# Altium integrated library Capacitor - Aluminium TH.IntLib: 4591 symbols (part 13 of 68)
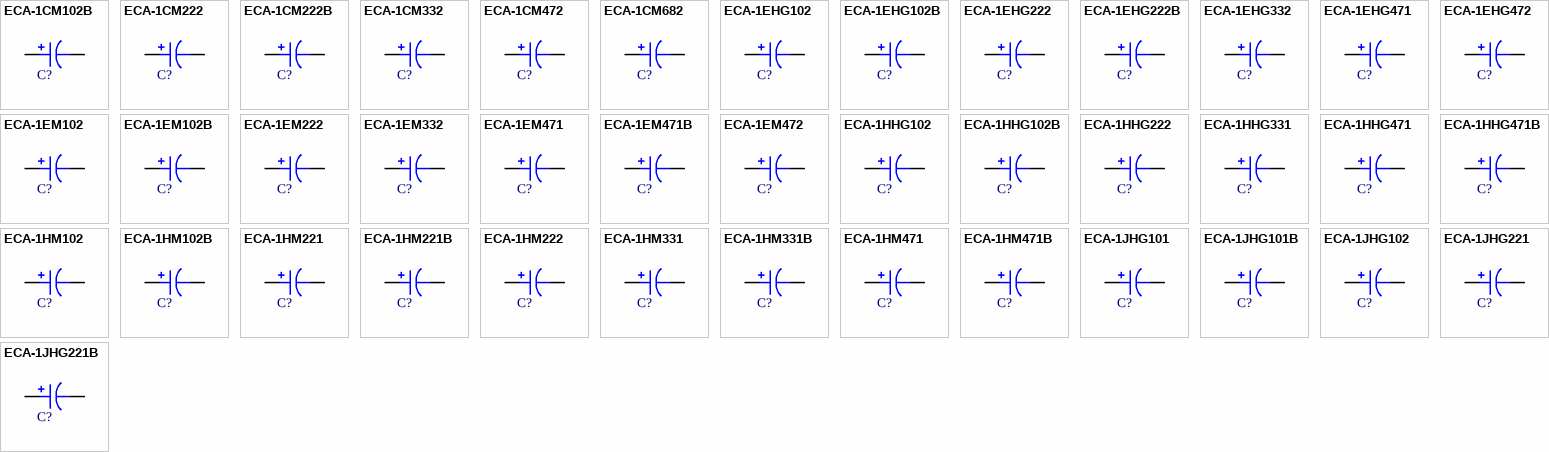
[diagram p126: symbols ECA-1CM102B to ECA-1JHG221B]

## ECA-1HHG102
designator C?, comment 1000uF  (value not drawn)
CAP ALUM 1000UF 20% 50V RADIAL; Part Number: ECA-1HHG102; Manufacturer: Panasonic Electronic Components; TemperatureRange: -55C ~ 105C; Type: Polar; Ripple Current: 950mA @ 120Hz; Value: 1000uF; PartId: 23951; Supplier 1: Digi-Key; Supplier Part Number 1: P5575-ND; ComponentLink1Description: Datasheet; ComponentLink1URL: https://industrial.panasonic.com/cdbs/www-data/pdf/RDF0000/ABA0000C1038.pdf; ComponentLink2Description: Digi-Key Listing; ComponentLink2URL: https://www.digikey.com/product-detail/en/panasonic-electronic-components/ECA-1HHG102/P5575-ND/245174; Tolerance: 20%; Voltage: 50V; Price: 0.98; Device Package: Radial, Can, 12.5mm
footprint CAP AL TH D12.5 L5 H27
pins: 1, 2

## ECA-1HHG102B
designator C?, comment 1000uF  (value not drawn)
CAP ALUM 1000UF 20% 50V RADIAL; Part Number: ECA-1HHG102B; Manufacturer: Panasonic Electronic Components; TemperatureRange: -55C ~ 105C; Type: Polar; Ripple Current: 950mA @ 120Hz; Value: 1000uF; PartId: 24018; Supplier 1: Digi-Key; Supplier Part Number 1: P19524CT-ND; ComponentLink1Description: Datasheet; ComponentLink1URL: https://industrial.panasonic.com/cdbs/www-data/pdf/RDF0000/ABA0000C1038.pdf; ComponentLink2Description: Digi-Key Listing; ComponentLink2URL: https://www.digikey.com/product-detail/en/panasonic-electronic-components/ECA-1HHG102B/P19524CT-ND/6109422; Tolerance: 20%; Voltage: 50V; Price: 1.07; Device Package: Radial, Can, 12.5mm
footprint CAP AL TH D12.5 L5 H27
pins: 1, 2

## ECA-1HHG222
designator C?, comment 2200uF  (value not drawn)
CAP ALUM 2200UF 20% 50V RADIAL; Part Number: ECA-1HHG222; Manufacturer: Panasonic Electronic Components; TemperatureRange: -55C ~ 105C; Type: Polar; Ripple Current: 1.47A @ 120Hz; Value: 2200uF; PartId: 27067; Supplier 1: Digi-Key; Supplier Part Number 1: P5576-ND; ComponentLink1Description: Datasheet; ComponentLink1URL: https://industrial.panasonic.com/cdbs/www-data/pdf/RDF0000/ABA0000C1038.pdf; ComponentLink2Description: Digi-Key Listing; ComponentLink2URL: https://www.digikey.com/product-detail/en/panasonic-electronic-components/ECA-1HHG222/P5576-ND/245175; Tolerance: 20%; Voltage: 50V; Price: 1.64; Device Package: Radial, Can, 16mm
footprint CAP AL TH D16 L7.5 H33.5
pins: 1, 2

## ECA-1HHG331
designator C?, comment 330uF  (value not drawn)
CAP ALUM 330UF 20% 50V RADIAL; Part Number: ECA-1HHG331; Manufacturer: Panasonic Electronic Components; TemperatureRange: -55C ~ 105C; Type: Polar; Ripple Current: 410mA @ 120Hz; Value: 330uF; PartId: 25258; Supplier 1: Digi-Key; Supplier Part Number 1: P5573-ND; ComponentLink1Description: Datasheet; ComponentLink1URL: https://industrial.panasonic.com/cdbs/www-data/pdf/RDF0000/ABA0000C1038.pdf; ComponentLink2Description: Digi-Key Listing; ComponentLink2URL: https://www.digikey.com/product-detail/en/panasonic-electronic-components/ECA-1HHG331/P5573-ND/245172; Tolerance: 20%; Voltage: 50V; Price: 0.59; Device Package: Radial, Can, 10mm
footprint CAP AL TH D10 L5 H17.5
pins: 1, 2

## ECA-1HHG471
designator C?, comment 470uF  (value not drawn)
CAP ALUM 470UF 20% 50V RADIAL; Part Number: ECA-1HHG471; Manufacturer: Panasonic Electronic Components; TemperatureRange: -55C ~ 105C; Type: Polar; Ripple Current: 530mA @ 120Hz; Value: 470uF; PartId: 25873; Supplier 1: Digi-Key; Supplier Part Number 1: P5574-ND; ComponentLink1Description: Datasheet; ComponentLink1URL: https://industrial.panasonic.com/cdbs/www-data/pdf/RDF0000/ABA0000C1038.pdf; ComponentLink2Description: Digi-Key Listing; ComponentLink2URL: https://www.digikey.com/product-detail/en/panasonic-electronic-components/ECA-1HHG471/P5574-ND/245173; Tolerance: 20%; Voltage: 50V; Price: 0.64; Device Package: Radial, Can, 10mm
footprint CAP AL TH D10 L5 H22
pins: 1, 2

## ECA-1HHG471B
designator C?, comment 470uF  (value not drawn)
CAP ALUM 470UF 20% 50V RADIAL; Part Number: ECA-1HHG471B; Manufacturer: Panasonic Electronic Components; TemperatureRange: -55C ~ 105C; Type: Polar; Ripple Current: 530mA @ 120Hz; Value: 470uF; PartId: 25796; Supplier 1: Digi-Key; Supplier Part Number 1: P19527TB-ND; ComponentLink1Description: Datasheet; ComponentLink1URL: https://industrial.panasonic.com/cdbs/www-data/pdf/RDF0000/ABA0000C1038.pdf; ComponentLink2Description: Digi-Key Listing; ComponentLink2URL: https://www.digikey.com/product-detail/en/panasonic-electronic-components/ECA-1HHG471B/P19527TB-ND/2688700; Tolerance: 20%; Voltage: 50V; Price: 0.2734; Device Package: Radial, Can, 10mm
footprint CAP AL TH D10 L5 H22
pins: 1, 2

## ECA-1HM102
designator C?, comment 1000uF  (value not drawn)
CAP ALUM 1000UF 20% 50V RADIAL; Part Number: ECA-1HM102; Manufacturer: Panasonic Electronic Components; TemperatureRange: -40C ~ 85C; Type: Polar; Ripple Current: 1.05A @ 120Hz; Value: 1000uF; PartId: 23870; Supplier 1: Digi-Key; Supplier Part Number 1: P5186-ND; ComponentLink1Description: Datasheet; ComponentLink1URL: http://industrial.panasonic.com/www-cgi/jvcr13pz.cgi?E+PZ+3+ABA0012+ECA1HM102+7+WW; ComponentLink2Description: Digi-Key Listing; ComponentLink2URL: https://www.digikey.com/product-detail/en/panasonic-electronic-components/ECA-1HM102/P5186-ND/245045; Tolerance: 20%; Voltage: 50V; Price: 0.81; Device Package: Radial, Can, 12.5mm
footprint CAP AL TH D12.5 L5 H27
pins: 1, 2

## ECA-1HM102B
designator C?, comment 1000uF  (value not drawn)
CAP ALUM 1000UF 20% 50V RADIAL; Part Number: ECA-1HM102B; Manufacturer: Panasonic Electronic Components; TemperatureRange: -40C ~ 85C; Type: Polar; Ripple Current: 1.05A @ 120Hz; Value: 1000uF; PartId: 23804; Supplier 1: Digi-Key; Supplier Part Number 1: P19529TB-ND; ComponentLink1Description: Datasheet; ComponentLink1URL: http://industrial.panasonic.com/www-cgi/jvcr13pz.cgi?E+PZ+3+ABA0012+ECA1HM102B+7+WW; ComponentLink2Description: Digi-Key Listing; ComponentLink2URL: https://www.digikey.com/product-detail/en/panasonic-electronic-components/ECA-1HM102B/P19529TB-ND/2688712; Tolerance: 20%; Voltage: 50V; Price: 0.3625; Device Package: Radial, Can, 12.5mm
footprint CAP AL TH D12.5 L5 H27
pins: 1, 2

## ECA-1HM221
designator C?, comment 220uF  (value not drawn)
CAP ALUM 220UF 20% 50V RADIAL; Part Number: ECA-1HM221; Manufacturer: Panasonic Electronic Components; TemperatureRange: -40C ~ 85C; Type: Polar; Ripple Current: 400mA @ 120Hz; Value: 220uF; PartId: 24845; Supplier 1: Digi-Key; Supplier Part Number 1: P5183-ND; ComponentLink1Description: Datasheet; ComponentLink1URL: http://industrial.panasonic.com/www-cgi/jvcr13pz.cgi?E+PZ+3+ABA0012+ECA1HM221+7+WW; ComponentLink2Description: Digi-Key Listing; ComponentLink2URL: https://www.digikey.com/product-detail/en/panasonic-electronic-components/ECA-1HM221/P5183-ND/245042; Tolerance: 20%; Voltage: 50V; Price: 0.47; Device Package: Radial, Can, 10mm
footprint CAP AL TH D10 L5 H14.5
pins: 1, 2

## ECA-1HM221B
designator C?, comment 220uF  (value not drawn)
CAP ALUM 220UF 20% 50V RADIAL; Part Number: ECA-1HM221B; Manufacturer: Panasonic Electronic Components; TemperatureRange: -40C ~ 85C; Type: Polar; Ripple Current: 400mA @ 120Hz; Value: 220uF; PartId: 24570; Supplier 1: Digi-Key; Supplier Part Number 1: P10398TB-ND; ComponentLink1Description: Datasheet; ComponentLink1URL: http://industrial.panasonic.com/www-cgi/jvcr13pz.cgi?E+PZ+3+ABA0012+ECA1HM221B+7+WW; ComponentLink2Description: Digi-Key Listing; ComponentLink2URL: https://www.digikey.com/product-detail/en/panasonic-electronic-components/ECA-1HM221B/P10398TB-ND/268483; Tolerance: 20%; Voltage: 50V; Price: 0.1554; Device Package: Radial, Can, 10mm
footprint CAP AL TH D10 L5 H14.5
pins: 1, 2

## ECA-1HM222
designator C?, comment 2200uF  (value not drawn)
CAP ALUM 2200UF 20% 50V RADIAL; Part Number: ECA-1HM222; Manufacturer: Panasonic Electronic Components; TemperatureRange: -40C ~ 85C; Type: Polar; Ripple Current: 1.3A @ 120Hz; Value: 2200uF; PartId: 27012; Supplier 1: Digi-Key; Supplier Part Number 1: P5187-ND; ComponentLink1Description: Datasheet; ComponentLink1URL: http://industrial.panasonic.com/www-cgi/jvcr13pz.cgi?E+PZ+3+ABA0012+ECA1HM222+7+WW; ComponentLink2Description: Digi-Key Listing; ComponentLink2URL: https://www.digikey.com/product-detail/en/panasonic-electronic-components/ECA-1HM222/P5187-ND/245046; Tolerance: 20%; Voltage: 50V; Price: 1.42; Device Package: Radial, Can, 16mm
footprint CAP AL TH D16 L7.5 H33.5
pins: 1, 2

## ECA-1HM331
designator C?, comment 330uF  (value not drawn)
CAP ALUM 330UF 20% 50V RADIAL; Part Number: ECA-1HM331; Manufacturer: Panasonic Electronic Components; TemperatureRange: -40C ~ 85C; Type: Polar; Ripple Current: 500mA @ 120Hz; Value: 330uF; PartId: 25153; Supplier 1: Digi-Key; Supplier Part Number 1: P5184-ND; ComponentLink1Description: Datasheet; ComponentLink1URL: http://industrial.panasonic.com/www-cgi/jvcr13pz.cgi?E+PZ+3+ABA0012+ECA1HM331+7+WW; ComponentLink2Description: Digi-Key Listing; ComponentLink2URL: https://www.digikey.com/product-detail/en/panasonic-electronic-components/ECA-1HM331/P5184-ND/245043; Tolerance: 20%; Voltage: 50V; Price: 0.43; Device Package: Radial, Can, 10mm
footprint CAP AL TH D10 L5 H17.5
pins: 1, 2

## ECA-1HM331B
designator C?, comment 330uF  (value not drawn)
CAP ALUM 330UF 20% 50V RADIAL; Part Number: ECA-1HM331B; Manufacturer: Panasonic Electronic Components; TemperatureRange: -40C ~ 85C; Type: Polar; Ripple Current: 500mA @ 120Hz; Value: 330uF; PartId: 25014; Supplier 1: Digi-Key; Supplier Part Number 1: P10399TB-ND; ComponentLink1Description: Datasheet; ComponentLink1URL: http://industrial.panasonic.com/www-cgi/jvcr13pz.cgi?E+PZ+3+ABA0012+ECA1HM331B+7+WW; ComponentLink2Description: Digi-Key Listing; ComponentLink2URL: https://www.digikey.com/product-detail/en/panasonic-electronic-components/ECA-1HM331B/P10399TB-ND/268484; Tolerance: 20%; Voltage: 50V; Price: 0.1582; Device Package: Radial, Can, 10mm
footprint CAP AL TH D10 L5 H17.5
pins: 1, 2

## ECA-1HM471
designator C?, comment 470uF  (value not drawn)
CAP ALUM 470UF 20% 50V RADIAL; Part Number: ECA-1HM471; Manufacturer: Panasonic Electronic Components; TemperatureRange: -40C ~ 85C; Type: Polar; Ripple Current: 650mA @ 120Hz; Value: 470uF; PartId: 25857; Supplier 1: Digi-Key; Supplier Part Number 1: P5185-ND; ComponentLink1Description: Datasheet; ComponentLink1URL: http://industrial.panasonic.com/www-cgi/jvcr13pz.cgi?E+PZ+3+ABA0012+ECA1HM471+7+WW; ComponentLink2Description: Digi-Key Listing; ComponentLink2URL: https://www.digikey.com/product-detail/en/panasonic-electronic-components/ECA-1HM471/P5185-ND/245044; Tolerance: 20%; Voltage: 50V; Price: 0.59; Device Package: Radial, Can, 10mm
footprint CAP AL TH D10 L5 H22
pins: 1, 2

## ECA-1HM471B
designator C?, comment 470uF  (value not drawn)
CAP ALUM 470UF 20% 50V RADIAL; Part Number: ECA-1HM471B; Manufacturer: Panasonic Electronic Components; TemperatureRange: -40C ~ 85C; Type: Polar; Ripple Current: 650mA @ 120Hz; Value: 470uF; PartId: 25764; Supplier 1: Digi-Key; Supplier Part Number 1: P10400TB-ND; ComponentLink1Description: Datasheet; ComponentLink1URL: http://industrial.panasonic.com/www-cgi/jvcr13pz.cgi?E+PZ+3+ABA0012+ECA1HM471B+7+WW; ComponentLink2Description: Digi-Key Listing; ComponentLink2URL: https://www.digikey.com/product-detail/en/panasonic-electronic-components/ECA-1HM471B/P10400TB-ND/268485; Tolerance: 20%; Voltage: 50V; Price: 0.2158; Device Package: Radial, Can, 10mm
footprint CAP AL TH D10 L5 H22
pins: 1, 2

## ECA-1JHG101
designator C?, comment 100uF  (value not drawn)
CAP ALUM 100UF 20% 63V RADIAL; Part Number: ECA-1JHG101; Manufacturer: Panasonic Electronic Components; TemperatureRange: -55C ~ 105C; Type: Polar; Ripple Current: 215mA @ 120Hz; Value: 100uF; PartId: 24902; Supplier 1: Digi-Key; Supplier Part Number 1: P5582-ND; ComponentLink1Description: Datasheet; ComponentLink1URL: http://industrial.panasonic.com/www-cgi/jvcr13pz.cgi?E+PZ+3+ABA0026+ECA1JHG101+7+WW; ComponentLink2Description: Digi-Key Listing; ComponentLink2URL: https://www.digikey.com/product-detail/en/panasonic-electronic-components/ECA-1JHG101/P5582-ND/245181; Tolerance: 20%; Voltage: 63V; Price: 0.49; Device Package: Radial, Can, 10mm
footprint CAP AL TH D10 L5 H14.5
pins: 1, 2

## ECA-1JHG101B
designator C?, comment 100uF  (value not drawn)
CAP ALUM 100UF 20% 63V RADIAL; Part Number: ECA-1JHG101B; Manufacturer: Panasonic Electronic Components; TemperatureRange: -55C ~ 105C; Type: Polar; Ripple Current: 215mA @ 120Hz; Value: 100uF; PartId: 24603; Supplier 1: Digi-Key; Supplier Part Number 1: P19531TB-ND; ComponentLink1Description: Datasheet; ComponentLink1URL: http://industrial.panasonic.com/www-cgi/jvcr13pz.cgi?E+PZ+3+ABA0026+ECA1JHG101B+7+WW; ComponentLink2Description: Digi-Key Listing; ComponentLink2URL: https://www.digikey.com/product-detail/en/panasonic-electronic-components/ECA-1JHG101B/P19531TB-ND/2688715; Tolerance: 20%; Voltage: 63V; Price: 0.1812; Device Package: Radial, Can, 10mm
footprint CAP AL TH D10 L5 H14.5
pins: 1, 2

## ECA-1JHG102
designator C?, comment 1000uF  (value not drawn)
CAP ALUM 1000UF 20% 63V RADIAL; Part Number: ECA-1JHG102; Manufacturer: Panasonic Electronic Components; TemperatureRange: -55C ~ 105C; Type: Polar; Ripple Current: 930mA @ 120Hz; Value: 1000uF; PartId: 26888; Supplier 1: Digi-Key; Supplier Part Number 1: P5586-ND; ComponentLink1Description: Datasheet; ComponentLink1URL: http://industrial.panasonic.com/www-cgi/jvcr13pz.cgi?E+PZ+3+ABA0026+ECA1JHG102+7+WW; ComponentLink2Description: Digi-Key Listing; ComponentLink2URL: https://www.digikey.com/product-detail/en/panasonic-electronic-components/ECA-1JHG102/P5586-ND/245185; Tolerance: 20%; Voltage: 63V; Price: 1.32; Device Package: Radial, Can, 16mm
footprint CAP AL TH D16 L7.5 H27
pins: 1, 2

## ECA-1JHG221
designator C?, comment 220uF  (value not drawn)
CAP ALUM 220UF 20% 63V RADIAL; Part Number: ECA-1JHG221; Manufacturer: Panasonic Electronic Components; TemperatureRange: -55C ~ 105C; Type: Polar; Ripple Current: 16mA @ 120Hz; Value: 220uF; PartId: 25308; Supplier 1: Digi-Key; Supplier Part Number 1: P5583-ND; ComponentLink1Description: Datasheet; ComponentLink1URL: http://industrial.panasonic.com/www-cgi/jvcr13pz.cgi?E+PZ+3+ABA0026+ECA1JHG221+7+WW; ComponentLink2Description: Digi-Key Listing; ComponentLink2URL: https://www.digikey.com/product-detail/en/panasonic-electronic-components/ECA-1JHG221/P5583-ND/245182; Tolerance: 20%; Voltage: 63V; Price: 0.65; Device Package: Radial, Can, 10mm
footprint CAP AL TH D10 L5 H17.5
pins: 1, 2

## ECA-1JHG221B
designator C?, comment 220uF  (value not drawn)
CAP ALUM 220UF 20% 63V RADIAL; Part Number: ECA-1JHG221B; Manufacturer: Panasonic Electronic Components; TemperatureRange: -55C ~ 105C; Type: Polar; Ripple Current: 16mA @ 120Hz; Value: 220uF; PartId: 25081; Supplier 1: Digi-Key; Supplier Part Number 1: P19532TB-ND; ComponentLink1Description: Datasheet; ComponentLink1URL: http://industrial.panasonic.com/www-cgi/jvcr13pz.cgi?E+PZ+3+ABA0026+ECA1JHG221B+7+WW; ComponentLink2Description: Digi-Key Listing; ComponentLink2URL: https://www.digikey.com/product-detail/en/panasonic-electronic-components/ECA-1JHG221B/P19532TB-ND/2688720; Tolerance: 20%; Voltage: 63V; Price: 0.2388; Device Package: Radial, Can, 10mm
footprint CAP AL TH D10 L5 H17.5
pins: 1, 2

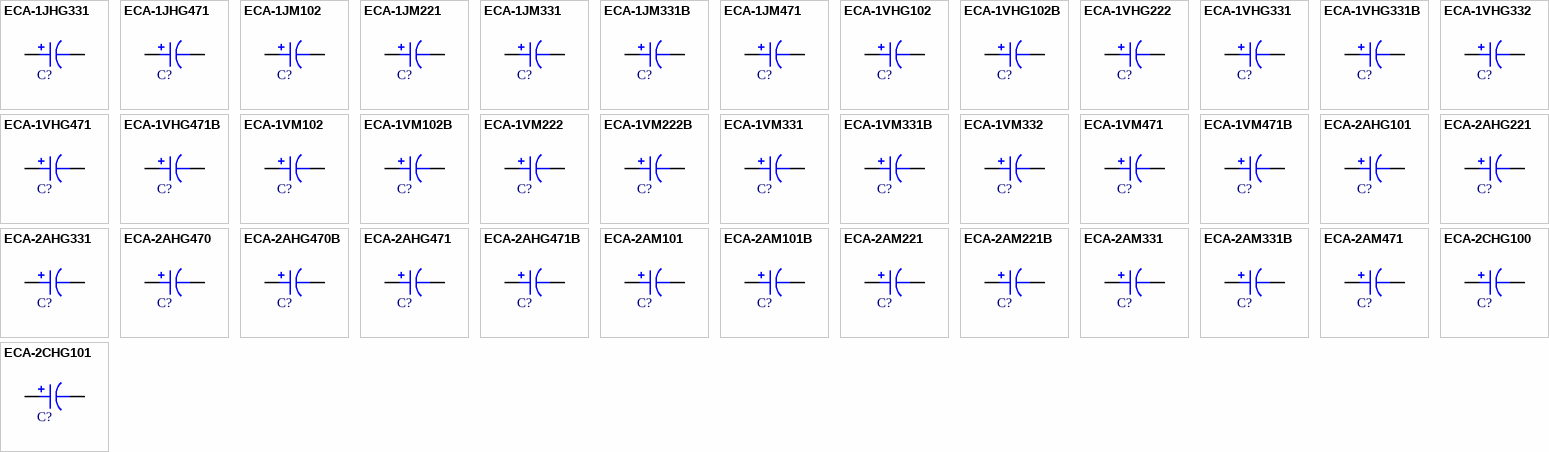
[diagram p21: symbols ECA-1JHG331 to ECA-2CHG101]

## ECA-1JHG331
designator C?, comment 330uF  (value not drawn)
CAP ALUM 330UF 20% 63V RADIAL; Part Number: ECA-1JHG331; Manufacturer: Panasonic Electronic Components; TemperatureRange: -55C ~ 105C; Type: Polar; Ripple Current: 510mA @ 120Hz; Value: 330uF; PartId: 25916; Supplier 1: Digi-Key; Supplier Part Number 1: P5584-ND; ComponentLink1Description: Datasheet; ComponentLink1URL: http://industrial.panasonic.com/www-cgi/jvcr13pz.cgi?E+PZ+3+ABA0026+ECA1JHG331+7+WW; ComponentLink2Description: Digi-Key Listing; ComponentLink2URL: https://www.digikey.com/product-detail/en/panasonic-electronic-components/ECA-1JHG331/P5584-ND/245183; Tolerance: 20%; Voltage: 63V; Price: 0.71; Device Package: Radial, Can, 10mm
footprint CAP AL TH D10 L5 H22
pins: 1, 2

## ECA-1JHG471
designator C?, comment 470uF  (value not drawn)
CAP ALUM 470UF 20% 63V RADIAL; Part Number: ECA-1JHG471; Manufacturer: Panasonic Electronic Components; TemperatureRange: -55C ~ 105C; Type: Polar; Ripple Current: 640mA @ 120Hz; Value: 470uF; PartId: 23337; Supplier 1: Digi-Key; Supplier Part Number 1: P5585-ND; ComponentLink1Description: Datasheet; ComponentLink1URL: http://industrial.panasonic.com/www-cgi/jvcr13pz.cgi?E+PZ+3+ABA0026+ECA1JHG471+7+WW; ComponentLink2Description: Digi-Key Listing; ComponentLink2URL: https://www.digikey.com/product-detail/en/panasonic-electronic-components/ECA-1JHG471/P5585-ND/245184; Tolerance: 20%; Voltage: 63V; Price: 0.84; Device Package: Radial, Can, 12.5mm
footprint CAP AL TH D12.5 L5 H22
pins: 1, 2

## ECA-1JM102
designator C?, comment 1000uF  (value not drawn)
CAP ALUM 1000UF 20% 63V RADIAL; Part Number: ECA-1JM102; Manufacturer: Panasonic Electronic Components; TemperatureRange: -40C ~ 85C; Type: Polar; Ripple Current: 1.1A @ 120Hz; Value: 1000uF; PartId: 26827; Supplier 1: Digi-Key; Supplier Part Number 1: P5197-ND; ComponentLink1Description: Datasheet; ComponentLink1URL: http://industrial.panasonic.com/www-cgi/jvcr13pz.cgi?E+PZ+3+ABA0012+ECA1JM102+7+WW; ComponentLink2Description: Digi-Key Listing; ComponentLink2URL: https://www.digikey.com/product-detail/en/panasonic-electronic-components/ECA-1JM102/P5197-ND/245056; Tolerance: 20%; Voltage: 63V; Price: 0.98; Device Package: Radial, Can, 16mm
footprint CAP AL TH D16 L7.5 H27
pins: 1, 2

## ECA-1JM221
designator C?, comment 220uF  (value not drawn)
CAP ALUM 220UF 20% 63V RADIAL; Part Number: ECA-1JM221; Manufacturer: Panasonic Electronic Components; TemperatureRange: -40C ~ 85C; Type: Polar; Ripple Current: 450mA @ 120Hz; Value: 220uF; PartId: 25152; Supplier 1: Digi-Key; Supplier Part Number 1: P5194-ND; ComponentLink1Description: Datasheet; ComponentLink1URL: http://industrial.panasonic.com/www-cgi/jvcr13pz.cgi?E+PZ+3+ABA0012+ECA1JM221+7+WW; ComponentLink2Description: Digi-Key Listing; ComponentLink2URL: https://www.digikey.com/product-detail/en/panasonic-electronic-components/ECA-1JM221/P5194-ND/245053; Tolerance: 20%; Voltage: 63V; Price: 0.43; Device Package: Radial, Can, 10mm
footprint CAP AL TH D10 L5 H17.5
pins: 1, 2

## ECA-1JM331
designator C?, comment 330uF  (value not drawn)
CAP ALUM 330UF 20% 63V RADIAL; Part Number: ECA-1JM331; Manufacturer: Panasonic Electronic Components; TemperatureRange: -40C ~ 85C; Type: Polar; Ripple Current: 550mA @ 120Hz; Value: 330uF; PartId: 25886; Supplier 1: Digi-Key; Supplier Part Number 1: P5195-ND; ComponentLink1Description: Datasheet; ComponentLink1URL: http://industrial.panasonic.com/www-cgi/jvcr13pz.cgi?E+PZ+3+ABA0012+ECA1JM331+7+WW; ComponentLink2Description: Digi-Key Listing; ComponentLink2URL: https://www.digikey.com/product-detail/en/panasonic-electronic-components/ECA-1JM331/P5195-ND/245054; Tolerance: 20%; Voltage: 63V; Price: 0.65; Device Package: Radial, Can, 10mm
footprint CAP AL TH D10 L5 H22
pins: 1, 2

## ECA-1JM331B
designator C?, comment 330uF  (value not drawn)
CAP ALUM 330UF 20% 63V RADIAL; Part Number: ECA-1JM331B; Manufacturer: Panasonic Electronic Components; TemperatureRange: -40C ~ 85C; Type: Polar; Ripple Current: 550mA @ 120Hz; Value: 330uF; PartId: 25767; Supplier 1: Digi-Key; Supplier Part Number 1: P19540TB-ND; ComponentLink1Description: Datasheet; ComponentLink1URL: http://industrial.panasonic.com/www-cgi/jvcr13pz.cgi?E+PZ+3+ABA0012+ECA1JM331B+7+WW; ComponentLink2Description: Digi-Key Listing; ComponentLink2URL: https://www.digikey.com/product-detail/en/panasonic-electronic-components/ECA-1JM331B/P19540TB-ND/2688738; Tolerance: 20%; Voltage: 63V; Price: 0.2244; Device Package: Radial, Can, 10mm
footprint CAP AL TH D10 L5 H22
pins: 1, 2

## ECA-1JM471
designator C?, comment 470uF  (value not drawn)
CAP ALUM 470UF 20% 63V RADIAL; Part Number: ECA-1JM471; Manufacturer: Panasonic Electronic Components; TemperatureRange: -40C ~ 85C; Type: Polar; Ripple Current: 750mA @ 120Hz; Value: 470uF; PartId: 23276; Supplier 1: Digi-Key; Supplier Part Number 1: P5196-ND; ComponentLink1Description: Datasheet; ComponentLink1URL: http://industrial.panasonic.com/www-cgi/jvcr13pz.cgi?E+PZ+3+ABA0012+ECA1JM471+7+WW; ComponentLink2Description: Digi-Key Listing; ComponentLink2URL: https://www.digikey.com/product-detail/en/panasonic-electronic-components/ECA-1JM471/P5196-ND/245055; Tolerance: 20%; Voltage: 63V; Price: 0.77; Device Package: Radial, Can, 12.5mm
footprint CAP AL TH D12.5 L5 H22
pins: 1, 2

## ECA-1VHG102
designator C?, comment 1000uF  (value not drawn)
CAP ALUM 1000UF 20% 35V RADIAL; Part Number: ECA-1VHG102; Manufacturer: Panasonic Electronic Components; TemperatureRange: -55C ~ 105C; Type: Polar; Ripple Current: 810mA @ 120Hz; Value: 1000uF; PartId: 23277; Supplier 1: Digi-Key; Supplier Part Number 1: P5555-ND; ComponentLink1Description: Datasheet; ComponentLink1URL: https://industrial.panasonic.com/cdbs/www-data/pdf/RDF0000/ABA0000C1038.pdf; ComponentLink2Description: Digi-Key Listing; ComponentLink2URL: https://www.digikey.com/product-detail/en/panasonic-electronic-components/ECA-1VHG102/P5555-ND/245154; Tolerance: 20%; Voltage: 35V; Price: 0.78; Device Package: Radial, Can, 12.5mm
footprint CAP AL TH D12.5 L5 H22
pins: 1, 2

## ECA-1VHG102B
designator C?, comment 1000uF  (value not drawn)
CAP ALUM 1000UF 20% 35V RADIAL; Part Number: ECA-1VHG102B; Manufacturer: Panasonic Electronic Components; TemperatureRange: -55C ~ 105C; Type: Polar; Ripple Current: 810mA @ 120Hz; Value: 1000uF; PartId: 23173; Supplier 1: Digi-Key; Supplier Part Number 1: P19545TB-ND; ComponentLink1Description: Datasheet; ComponentLink1URL: http://industrial.panasonic.com/www-cgi/jvcr13pz.cgi?E+PZ+3+ABA0026+ECA1VHG102B+7+WW; ComponentLink2Description: Digi-Key Listing; ComponentLink2URL: https://www.digikey.com/product-detail/en/panasonic-electronic-components/ECA-1VHG102B/P19545TB-ND/2688743; Tolerance: 20%; Voltage: 35V; Price: 0.3495; Device Package: Radial, Can, 12.5mm
footprint CAP AL TH D12.5 L5 H22
pins: 1, 2

## ECA-1VHG222
designator C?, comment 2200uF  (value not drawn)
CAP ALUM 2200UF 20% 35V RADIAL; Part Number: ECA-1VHG222; Manufacturer: Panasonic Electronic Components; TemperatureRange: -55C ~ 105C; Type: Polar; Ripple Current: 1.26A @ 120Hz; Value: 2200uF; PartId: 26866; Supplier 1: Digi-Key; Supplier Part Number 1: P5556-ND; ComponentLink1Description: Datasheet; ComponentLink1URL: http://industrial.panasonic.com/www-cgi/jvcr13pz.cgi?E+PZ+3+ABA0026+ECA1VHG222+7+WW; ComponentLink2Description: Digi-Key Listing; ComponentLink2URL: https://www.digikey.com/product-detail/en/panasonic-electronic-components/ECA-1VHG222/P5556-ND/245155; Tolerance: 20%; Voltage: 35V; Price: 1.27; Device Package: Radial, Can, 16mm
footprint CAP AL TH D16 L7.5 H27
pins: 1, 2

## ECA-1VHG331
designator C?, comment 330uF  (value not drawn)
CAP ALUM 330UF 20% 35V RADIAL; Part Number: ECA-1VHG331; Manufacturer: Panasonic Electronic Components; TemperatureRange: -55C ~ 105C; Type: Polar; Ripple Current: 350mA @ 120Hz; Value: 330uF; PartId: 24900; Supplier 1: Digi-Key; Supplier Part Number 1: P5553-ND; ComponentLink1Description: Datasheet; ComponentLink1URL: http://industrial.panasonic.com/www-cgi/jvcr13pz.cgi?E+PZ+3+ABA0026+ECA1VHG331+7+WW; ComponentLink2Description: Digi-Key Listing; ComponentLink2URL: https://www.digikey.com/product-detail/en/panasonic-electronic-components/ECA-1VHG331/P5553-ND/245152; Tolerance: 20%; Voltage: 35V; Price: 0.49; Device Package: Radial, Can, 10mm
footprint CAP AL TH D10 L5 H14.5
pins: 1, 2

## ECA-1VHG331B
designator C?, comment 330uF  (value not drawn)
CAP ALUM 330UF 20% 35V RADIAL; Part Number: ECA-1VHG331B; Manufacturer: Panasonic Electronic Components; TemperatureRange: -55C ~ 105C; Type: Polar; Ripple Current: 350mA @ 120Hz; Value: 330uF; PartId: 24604; Supplier 1: Digi-Key; Supplier Part Number 1: P19547TB-ND; ComponentLink1Description: Datasheet; ComponentLink1URL: http://industrial.panasonic.com/www-cgi/jvcr13pz.cgi?E+PZ+3+ABA0026+ECA1VHG331B+7+WW; ComponentLink2Description: Digi-Key Listing; ComponentLink2URL: https://www.digikey.com/product-detail/en/panasonic-electronic-components/ECA-1VHG331B/P19547TB-ND/2688748; Tolerance: 20%; Voltage: 35V; Price: 0.1812; Device Package: Radial, Can, 10mm
footprint CAP AL TH D10 L5 H14.5
pins: 1, 2

## ECA-1VHG332
designator C?, comment 3300uF  (value not drawn)
CAP ALUM 3300UF 20% 35V RADIAL; Part Number: ECA-1VHG332; Manufacturer: Panasonic Electronic Components; TemperatureRange: -55C ~ 105C; Type: Polar; Ripple Current: 1.61A @ 120Hz; Value: 3300uF; PartId: 27068; Supplier 1: Digi-Key; Supplier Part Number 1: P5557-ND; ComponentLink1Description: Datasheet; ComponentLink1URL: http://industrial.panasonic.com/www-cgi/jvcr13pz.cgi?E+PZ+3+ABA0026+ECA1VHG332+7+WW; ComponentLink2Description: Digi-Key Listing; ComponentLink2URL: https://www.digikey.com/product-detail/en/panasonic-electronic-components/ECA-1VHG332/P5557-ND/245156; Tolerance: 20%; Voltage: 35V; Price: 1.64; Device Package: Radial, Can, 16mm
footprint CAP AL TH D16 L7.5 H33.5
pins: 1, 2

## ECA-1VHG471
designator C?, comment 470uF  (value not drawn)
CAP ALUM 470UF 20% 35V RADIAL; Part Number: ECA-1VHG471; Manufacturer: Panasonic Electronic Components; TemperatureRange: -55C ~ 105C; Type: Polar; Ripple Current: 460mA @ 120Hz; Value: 470uF; PartId: 25264; Supplier 1: Digi-Key; Supplier Part Number 1: P5554-ND; ComponentLink1Description: Datasheet; ComponentLink1URL: http://industrial.panasonic.com/www-cgi/jvcr13pz.cgi?E+PZ+3+ABA0026+ECA1VHG471+7+WW; ComponentLink2Description: Digi-Key Listing; ComponentLink2URL: https://www.digikey.com/product-detail/en/panasonic-electronic-components/ECA-1VHG471/P5554-ND/245153; Tolerance: 20%; Voltage: 35V; Price: 0.6; Device Package: Radial, Can, 10mm
footprint CAP AL TH D10 L5 H17.5
pins: 1, 2

## ECA-1VHG471B
designator C?, comment 470uF  (value not drawn)
CAP ALUM 470UF 20% 35V RADIAL; Part Number: ECA-1VHG471B; Manufacturer: Panasonic Electronic Components; TemperatureRange: -55C ~ 105C; Type: Polar; Ripple Current: 460mA @ 120Hz; Value: 470uF; PartId: 25060; Supplier 1: Digi-Key; Supplier Part Number 1: P19548TB-ND; ComponentLink1Description: Datasheet; ComponentLink1URL: http://industrial.panasonic.com/www-cgi/jvcr13pz.cgi?E+PZ+3+ABA0026+ECA1VHG471B+7+WW; ComponentLink2Description: Digi-Key Listing; ComponentLink2URL: https://www.digikey.com/product-detail/en/panasonic-electronic-components/ECA-1VHG471B/P19548TB-ND/2688751; Tolerance: 20%; Voltage: 35V; Price: 0.2186; Device Package: Radial, Can, 10mm
footprint CAP AL TH D10 L5 H17.5
pins: 1, 2

## ECA-1VM102
designator C?, comment 1000uF  (value not drawn)
CAP ALUM 1000UF 20% 35V RADIAL; Part Number: ECA-1VM102; Manufacturer: Panasonic Electronic Components; TemperatureRange: -40C ~ 85C; Type: Polar; Ripple Current: 900mA @ 120Hz; Value: 1000uF; PartId: 23251; Supplier 1: Digi-Key; Supplier Part Number 1: P5169-ND; ComponentLink1Description: Datasheet; ComponentLink1URL: http://industrial.panasonic.com/www-cgi/jvcr13pz.cgi?E+PZ+3+ABA0012+ECA1VM102+7+WW; ComponentLink2Description: Digi-Key Listing; ComponentLink2URL: https://www.digikey.com/product-detail/en/panasonic-electronic-components/ECA-1VM102/P5169-ND/184363; Tolerance: 20%; Voltage: 35V; Price: 0.71; Device Package: Radial, Can, 12.5mm
footprint CAP AL TH D12.5 L5 H22
pins: 1, 2

## ECA-1VM102B
designator C?, comment 1000uF  (value not drawn)
CAP ALUM 1000UF 20% 35V RADIAL; Part Number: ECA-1VM102B; Manufacturer: Panasonic Electronic Components; TemperatureRange: -40C ~ 85C; Type: Polar; Ripple Current: 900mA @ 120Hz; Value: 1000uF; PartId: 23147; Supplier 1: Digi-Key; Supplier Part Number 1: P10387TB-ND; ComponentLink1Description: Datasheet; ComponentLink1URL: http://industrial.panasonic.com/www-cgi/jvcr13pz.cgi?E+PZ+3+ABA0012+ECA1VM102B+7+WW; ComponentLink2Description: Digi-Key Listing; ComponentLink2URL: https://www.digikey.com/product-detail/en/panasonic-electronic-components/ECA-1VM102B/P10387TB-ND/268472; Tolerance: 20%; Voltage: 35V; Price: 0.2833; Device Package: Radial, Can, 12.5mm
footprint CAP AL TH D12.5 L5 H22
pins: 1, 2

## ECA-1VM222
designator C?, comment 2200uF  (value not drawn)
CAP ALUM 2200UF 20% 35V RADIAL; Part Number: ECA-1VM222; Manufacturer: Panasonic Electronic Components; TemperatureRange: -40C ~ 85C; Type: Polar; Ripple Current: 1.25A @ 120Hz; Value: 2200uF; PartId: 26824; Supplier 1: Digi-Key; Supplier Part Number 1: P5170-ND; ComponentLink1Description: Datasheet; ComponentLink1URL: http://industrial.panasonic.com/www-cgi/jvcr13pz.cgi?E+PZ+3+ABA0012+ECA1VM222+7+WW; ComponentLink2Description: Digi-Key Listing; ComponentLink2URL: https://www.digikey.com/product-detail/en/panasonic-electronic-components/ECA-1VM222/P5170-ND/245029; Tolerance: 20%; Voltage: 35V; Price: 0.98; Device Package: Radial, Can, 16mm
footprint CAP AL TH D16 L7.5 H27
pins: 1, 2

## ECA-1VM222B
designator C?, comment 2200uF  (value not drawn)
CAP ALUM 2200UF 20% 35V RADIAL; Part Number: ECA-1VM222B; Manufacturer: Panasonic Electronic Components; TemperatureRange: -40C ~ 85C; Type: Polar; Ripple Current: 1.25A @ 120Hz; Value: 2200uF; PartId: 26751; Supplier 1: Digi-Key; Supplier Part Number 1: P19550TB-ND; ComponentLink1Description: Datasheet; ComponentLink1URL: http://industrial.panasonic.com/www-cgi/jvcr13pz.cgi?E+PZ+3+ABA0012+ECA1VM222B+7+WW; ComponentLink2Description: Digi-Key Listing; ComponentLink2URL: https://www.digikey.com/product-detail/en/panasonic-electronic-components/ECA-1VM222B/P19550TB-ND/2688756; Tolerance: 20%; Voltage: 35V; Price: 0.5468; Device Package: Radial, Can, 16mm
footprint CAP AL TH D16 L7.5 H27
pins: 1, 2

## ECA-1VM331
designator C?, comment 330uF  (value not drawn)
CAP ALUM 330UF 20% 35V RADIAL; Part Number: ECA-1VM331; Manufacturer: Panasonic Electronic Components; TemperatureRange: -40C ~ 85C; Type: Polar; Ripple Current: 440mA @ 120Hz; Value: 330uF; PartId: 24776; Supplier 1: Digi-Key; Supplier Part Number 1: P5167-ND; ComponentLink1Description: Datasheet; ComponentLink1URL: http://industrial.panasonic.com/www-cgi/jvcr13pz.cgi?E+PZ+3+ABA0012+ECA1VM331+7+WW; ComponentLink2Description: Digi-Key Listing; ComponentLink2URL: https://www.digikey.com/product-detail/en/panasonic-electronic-components/ECA-1VM331/P5167-ND/245026; Tolerance: 20%; Voltage: 35V; Price: 0.44; Device Package: Radial, Can, 10mm
footprint CAP AL TH D10 L5 H14.5
pins: 1, 2

## ECA-1VM331B
designator C?, comment 330uF  (value not drawn)
CAP ALUM 330UF 20% 35V RADIAL; Part Number: ECA-1VM331B; Manufacturer: Panasonic Electronic Components; TemperatureRange: -40C ~ 85C; Type: Polar; Ripple Current: 440mA @ 120Hz; Value: 330uF; PartId: 24537; Supplier 1: Digi-Key; Supplier Part Number 1: P10385TB-ND; ComponentLink1Description: Datasheet; ComponentLink1URL: http://industrial.panasonic.com/www-cgi/jvcr13pz.cgi?E+PZ+3+ABA0012+ECA1VM331B+7+WW; ComponentLink2Description: Digi-Key Listing; ComponentLink2URL: https://www.digikey.com/product-detail/en/panasonic-electronic-components/ECA-1VM331B/P10385TB-ND/268470; Tolerance: 20%; Voltage: 35V; Price: 0.1455; Device Package: Radial, Can, 10mm
footprint CAP AL TH D10 L5 H14.5
pins: 1, 2

## ECA-1VM332
designator C?, comment 3300uF  (value not drawn)
CAP ALUM 3300UF 20% 35V RADIAL; Part Number: ECA-1VM332; Manufacturer: Panasonic Electronic Components; TemperatureRange: -40C ~ 85C; Type: Polar; Ripple Current: 1.4A @ 120Hz; Value: 3300uF; PartId: 26999; Supplier 1: Digi-Key; Supplier Part Number 1: P5171-ND; ComponentLink1Description: Datasheet; ComponentLink1URL: http://industrial.panasonic.com/www-cgi/jvcr13pz.cgi?E+PZ+3+ABA0012+ECA1VM332+7+WW; ComponentLink2Description: Digi-Key Listing; ComponentLink2URL: https://www.digikey.com/product-detail/en/panasonic-electronic-components/ECA-1VM332/P5171-ND/245030; Tolerance: 20%; Voltage: 35V; Price: 1.34; Device Package: Radial, Can, 16mm
footprint CAP AL TH D16 L7.5 H33.5
pins: 1, 2

## ECA-1VM471
designator C?, comment 470uF  (value not drawn)
CAP ALUM 470UF 20% 35V RADIAL; Part Number: ECA-1VM471; Manufacturer: Panasonic Electronic Components; TemperatureRange: -40C ~ 85C; Type: Polar; Ripple Current: 550mA @ 120Hz; Value: 470uF; PartId: 25144; Supplier 1: Digi-Key; Supplier Part Number 1: P5168-ND; ComponentLink1Description: Datasheet; ComponentLink1URL: http://industrial.panasonic.com/www-cgi/jvcr13pz.cgi?E+PZ+3+ABA0012+ECA1VM471+7+WW; ComponentLink2Description: Digi-Key Listing; ComponentLink2URL: https://www.digikey.com/product-detail/en/panasonic-electronic-components/ECA-1VM471/P5168-ND/245027; Tolerance: 20%; Voltage: 35V; Price: 0.41; Device Package: Radial, Can, 10mm
footprint CAP AL TH D10 L5 H17.5
pins: 1, 2

## ECA-1VM471B
designator C?, comment 470uF  (value not drawn)
CAP ALUM 470UF 20% 35V RADIAL; Part Number: ECA-1VM471B; Manufacturer: Panasonic Electronic Components; TemperatureRange: -40C ~ 85C; Type: Polar; Ripple Current: 550mA @ 120Hz; Value: 470uF; PartId: 24993; Supplier 1: Digi-Key; Supplier Part Number 1: P10386TB-ND; ComponentLink1Description: Datasheet; ComponentLink1URL: http://industrial.panasonic.com/www-cgi/jvcr13pz.cgi?E+PZ+3+ABA0012+ECA1VM471B+7+WW; ComponentLink2Description: Digi-Key Listing; ComponentLink2URL: https://www.digikey.com/product-detail/en/panasonic-electronic-components/ECA-1VM471B/P10386TB-ND/268471; Tolerance: 20%; Voltage: 35V; Price: 0.1406; Device Package: Radial, Can, 10mm
footprint CAP AL TH D10 L5 H17.5
pins: 1, 2

## ECA-2AHG101
designator C?, comment 100uF  (value not drawn)
CAP ALUM 100UF 20% 100V RADIAL; Part Number: ECA-2AHG101; Manufacturer: Panasonic Electronic Components; TemperatureRange: -55C ~ 105C; Type: Polar; Ripple Current: 265mA @ 120Hz; Value: 100uF; PartId: 25912; Supplier 1: Digi-Key; Supplier Part Number 1: P5597-ND; ComponentLink1Description: Datasheet; ComponentLink1URL: http://industrial.panasonic.com/www-cgi/jvcr13pz.cgi?E+PZ+3+ABA0026+ECA2AHG101+7+WW; ComponentLink2Description: Digi-Key Listing; ComponentLink2URL: https://www.digikey.com/product-detail/en/panasonic-electronic-components/ECA-2AHG101/P5597-ND/245196; Tolerance: 20%; Voltage: 100V; Price: 0.7; Device Package: Radial, Can, 10mm
footprint CAP AL TH D10 L5 H22
pins: 1, 2

## ECA-2AHG221
designator C?, comment 220uF  (value not drawn)
CAP ALUM 220UF 20% 100V RADIAL; Part Number: ECA-2AHG221; Manufacturer: Panasonic Electronic Components; TemperatureRange: -55C ~ 105C; Type: Polar; Ripple Current: 440mA @ 120Hz; Value: 220uF; PartId: 23976; Supplier 1: Digi-Key; Supplier Part Number 1: P5598-ND; ComponentLink1Description: Datasheet; ComponentLink1URL: http://industrial.panasonic.com/www-cgi/jvcr13pz.cgi?E+PZ+3+ABA0026+ECA2AHG221+7+WW; ComponentLink2Description: Digi-Key Listing; ComponentLink2URL: https://www.digikey.com/product-detail/en/panasonic-electronic-components/ECA-2AHG221/P5598-ND/245197; Tolerance: 20%; Voltage: 100V; Price: 1.02; Device Package: Radial, Can, 12.5mm
footprint CAP AL TH D12.5 L5 H27
pins: 1, 2

## ECA-2AHG331
designator C?, comment 330uF  (value not drawn)
CAP ALUM 330UF 20% 100V RADIAL; Part Number: ECA-2AHG331; Manufacturer: Panasonic Electronic Components; TemperatureRange: -55C ~ 105C; Type: Polar; Ripple Current: 540mA @ 120Hz; Value: 330uF; PartId: 26867; Supplier 1: Digi-Key; Supplier Part Number 1: P5599-ND; ComponentLink1Description: Datasheet; ComponentLink1URL: http://industrial.panasonic.com/www-cgi/jvcr13pz.cgi?E+PZ+3+ABA0026+ECA2AHG331+7+WW; ComponentLink2Description: Digi-Key Listing; ComponentLink2URL: https://www.digikey.com/product-detail/en/panasonic-electronic-components/ECA-2AHG331/P5599-ND/245198; Tolerance: 20%; Voltage: 100V; Price: 1.27; Device Package: Radial, Can, 16mm
footprint CAP AL TH D16 L7.5 H27
pins: 1, 2

## ECA-2AHG470
designator C?, comment 47uF  (value not drawn)
CAP ALUM 47UF 20% 100V RADIAL; Part Number: ECA-2AHG470; Manufacturer: Panasonic Electronic Components; TemperatureRange: -55C ~ 105C; Type: Polar; Ripple Current: 165mA @ 120Hz; Value: 47uF; PartId: 24798; Supplier 1: Digi-Key; Supplier Part Number 1: P5596-ND; ComponentLink1Description: Datasheet; ComponentLink1URL: http://industrial.panasonic.com/www-cgi/jvcr13pz.cgi?E+PZ+3+ABA0026+ECA2AHG470+7+WW; ComponentLink2Description: Digi-Key Listing; ComponentLink2URL: https://www.digikey.com/product-detail/en/panasonic-electronic-components/ECA-2AHG470/P5596-ND/245195; Tolerance: 20%; Voltage: 100V; Price: 0.45; Device Package: Radial, Can, 10mm
footprint CAP AL TH D10 L5 H14.5
pins: 1, 2

## ECA-2AHG470B
designator C?, comment 47uF  (value not drawn)
CAP ALUM 47UF 20% 100V RADIAL; Part Number: ECA-2AHG470B; Manufacturer: Panasonic Electronic Components; TemperatureRange: -55C ~ 105C; Type: Polar; Ripple Current: 165mA @ 120Hz; Value: 47uF; PartId: 24582; Supplier 1: Digi-Key; Supplier Part Number 1: P19553TB-ND; ComponentLink1Description: Datasheet; ComponentLink1URL: http://industrial.panasonic.com/www-cgi/jvcr13pz.cgi?E+PZ+3+ABA0026+ECA2AHG470B+7+WW; ComponentLink2Description: Digi-Key Listing; ComponentLink2URL: https://www.digikey.com/product-detail/en/panasonic-electronic-components/ECA-2AHG470B/P19553TB-ND/2688770; Tolerance: 20%; Voltage: 100V; Price: 0.1668; Device Package: Radial, Can, 10mm
footprint CAP AL TH D10 L5 H14.5
pins: 1, 2

## ECA-2AHG471
designator C?, comment 470uF  (value not drawn)
CAP ALUM 470UF 20% 100V RADIAL; Part Number: ECA-2AHG471; Manufacturer: Panasonic Electronic Components; TemperatureRange: -55C ~ 105C; Type: Polar; Ripple Current: 715mA @ 120Hz; Value: 470uF; PartId: 26908; Supplier 1: Digi-Key; Supplier Part Number 1: P5850-ND; ComponentLink1Description: Datasheet; ComponentLink1URL: http://industrial.panasonic.com/www-cgi/jvcr13pz.cgi?E+PZ+3+ABA0026+ECA2AHG471+7+WW; ComponentLink2Description: Digi-Key Listing; ComponentLink2URL: https://www.digikey.com/product-detail/en/panasonic-electronic-components/ECA-2AHG471/P5850-ND/245199; Tolerance: 20%; Voltage: 100V; Price: 1.6; Device Package: Radial, Can, 16mm
footprint CAP AL TH D16 L7.5 H27
pins: 1, 2

## ECA-2AHG471B
designator C?, comment 470uF  (value not drawn)
CAP ALUM 470UF 20% 100V RADIAL; Part Number: ECA-2AHG471B; Manufacturer: Panasonic Electronic Components; TemperatureRange: -55C ~ 105C; Type: Polar; Ripple Current: 715mA @ 120Hz; Value: 470uF; PartId: 26808; Supplier 1: Digi-Key; Supplier Part Number 1: P19554TB-ND; ComponentLink1Description: Datasheet; ComponentLink1URL: http://industrial.panasonic.com/www-cgi/jvcr13pz.cgi?E+PZ+3+ABA0026+ECA2AHG471B+7+WW; ComponentLink2Description: Digi-Key Listing; ComponentLink2URL: https://www.digikey.com/product-detail/en/panasonic-electronic-components/ECA-2AHG471B/P19554TB-ND/2688771; Tolerance: 20%; Voltage: 100V; Price: 0.863; Device Package: Radial, Can, 16mm
footprint CAP AL TH D16 L7.5 H27
pins: 1, 2

## ECA-2AM101
designator C?, comment 100uF  (value not drawn)
CAP ALUM 100UF 20% 100V RADIAL; Part Number: ECA-2AM101; Manufacturer: Panasonic Electronic Components; TemperatureRange: -40C ~ 85C; Type: Polar; Ripple Current: 350mA @ 120Hz; Value: 100uF; PartId: 25191; Supplier 1: Digi-Key; Supplier Part Number 1: P5313-ND; ComponentLink1Description: Datasheet; ComponentLink1URL: http://industrial.panasonic.com/www-cgi/jvcr13pz.cgi?E+PZ+3+ABA0012+ECA2AM101+7+WW; ComponentLink2Description: Digi-Key Listing; ComponentLink2URL: https://www.digikey.com/product-detail/en/panasonic-electronic-components/ECA-2AM101/P5313-ND/245067; Tolerance: 20%; Voltage: 100V; Price: 0.49; Device Package: Radial, Can, 10mm
footprint CAP AL TH D10 L5 H17.5
pins: 1, 2

## ECA-2AM101B
designator C?, comment 100uF  (value not drawn)
CAP ALUM 100UF 20% 100V RADIAL; Part Number: ECA-2AM101B; Manufacturer: Panasonic Electronic Components; TemperatureRange: -40C ~ 85C; Type: Polar; Ripple Current: 350mA @ 120Hz; Value: 100uF; PartId: 25033; Supplier 1: Digi-Key; Supplier Part Number 1: P19557TB-ND; ComponentLink1Description: Datasheet; ComponentLink1URL: http://industrial.panasonic.com/www-cgi/jvcr13pz.cgi?E+PZ+3+ABA0012+ECA2AM101B+7+WW; ComponentLink2Description: Digi-Key Listing; ComponentLink2URL: https://www.digikey.com/product-detail/en/panasonic-electronic-components/ECA-2AM101B/P19557TB-ND/2688777; Tolerance: 20%; Voltage: 100V; Price: 0.1784; Device Package: Radial, Can, 10mm
footprint CAP AL TH D10 L5 H17.5
pins: 1, 2

## ECA-2AM221
designator C?, comment 220uF  (value not drawn)
CAP ALUM 220UF 20% 100V RADIAL; Part Number: ECA-2AM221; Manufacturer: Panasonic Electronic Components; TemperatureRange: -40C ~ 85C; Type: Polar; Ripple Current: 550mA @ 120Hz; Value: 220uF; PartId: 23278; Supplier 1: Digi-Key; Supplier Part Number 1: P5314-ND; ComponentLink1Description: Datasheet; ComponentLink1URL: http://industrial.panasonic.com/www-cgi/jvcr13pz.cgi?E+PZ+3+ABA0012+ECA2AM221+7+WW; ComponentLink2Description: Digi-Key Listing; ComponentLink2URL: https://www.digikey.com/product-detail/en/panasonic-electronic-components/ECA-2AM221/P5314-ND/245068; Tolerance: 20%; Voltage: 100V; Price: 0.78; Device Package: Radial, Can, 12.5mm
footprint CAP AL TH D12.5 L5 H22
pins: 1, 2

## ECA-2AM221B
designator C?, comment 220uF  (value not drawn)
CAP ALUM 220UF 20% 100V RADIAL; Part Number: ECA-2AM221B; Manufacturer: Panasonic Electronic Components; TemperatureRange: -40C ~ 85C; Type: Polar; Ripple Current: 550mA @ 120Hz; Value: 220uF; PartId: 23361; Supplier 1: Digi-Key; Supplier Part Number 1: P19558CT-ND; ComponentLink1Description: Datasheet; ComponentLink1URL: http://industrial.panasonic.com/www-cgi/jvcr13pz.cgi?E+PZ+3+ABA0012+ECA2AM221B+7+WW; ComponentLink2Description: Digi-Key Listing; ComponentLink2URL: https://www.digikey.com/product-detail/en/panasonic-electronic-components/ECA-2AM221B/P19558CT-ND/6109456; Tolerance: 20%; Voltage: 100V; Price: 0.86; Device Package: Radial, Can, 12.5mm
footprint CAP AL TH D12.5 L5 H22
pins: 1, 2

## ECA-2AM331
designator C?, comment 330uF  (value not drawn)
CAP ALUM 330UF 20% 100V RADIAL; Part Number: ECA-2AM331; Manufacturer: Panasonic Electronic Components; TemperatureRange: -40C ~ 85C; Type: Polar; Ripple Current: 700mA @ 120Hz; Value: 330uF; PartId: 23905; Supplier 1: Digi-Key; Supplier Part Number 1: P5315-ND; ComponentLink1Description: Datasheet; ComponentLink1URL: http://industrial.panasonic.com/www-cgi/jvcr13pz.cgi?E+PZ+3+ABA0012+ECA2AM331+7+WW; ComponentLink2Description: Digi-Key Listing; ComponentLink2URL: https://www.digikey.com/product-detail/en/panasonic-electronic-components/ECA-2AM331/P5315-ND/245069; Tolerance: 20%; Voltage: 100V; Price: 0.9; Device Package: Radial, Can, 12.5mm
footprint CAP AL TH D12.5 L5 H27
pins: 1, 2

## ECA-2AM331B
designator C?, comment 330uF  (value not drawn)
CAP ALUM 330UF 20% 100V RADIAL; Part Number: ECA-2AM331B; Manufacturer: Panasonic Electronic Components; TemperatureRange: -40C ~ 85C; Type: Polar; Ripple Current: 700mA @ 120Hz; Value: 330uF; PartId: 23813; Supplier 1: Digi-Key; Supplier Part Number 1: P19561TB-ND; ComponentLink1Description: Datasheet; ComponentLink1URL: http://industrial.panasonic.com/www-cgi/jvcr13pz.cgi?E+PZ+3+ABA0012+ECA2AM331B+7+WW; ComponentLink2Description: Digi-Key Listing; ComponentLink2URL: https://www.digikey.com/product-detail/en/panasonic-electronic-components/ECA-2AM331B/P19561TB-ND/2688784; Tolerance: 20%; Voltage: 100V; Price: 0.4141; Device Package: Radial, Can, 12.5mm
footprint CAP AL TH D12.5 L5 H27
pins: 1, 2

## ECA-2AM471
designator C?, comment 470uF  (value not drawn)
CAP ALUM 470UF 20% 100V RADIAL; Part Number: ECA-2AM471; Manufacturer: Panasonic Electronic Components; TemperatureRange: -40C ~ 85C; Type: Polar; Ripple Current: 900mA @ 120Hz; Value: 470uF; PartId: 26882; Supplier 1: Digi-Key; Supplier Part Number 1: P5316-ND; ComponentLink1Description: Datasheet; ComponentLink1URL: http://industrial.panasonic.com/www-cgi/jvcr13pz.cgi?E+PZ+3+ABA0012+ECA2AM471+7+WW; ComponentLink2Description: Digi-Key Listing; ComponentLink2URL: https://www.digikey.com/product-detail/en/panasonic-electronic-components/ECA-2AM471/P5316-ND/245070; Tolerance: 20%; Voltage: 100V; Price: 1.31; Device Package: Radial, Can, 16mm
footprint CAP AL TH D16 L7.5 H27
pins: 1, 2

## ECA-2CHG100
designator C?, comment 10uF  (value not drawn)
CAP ALUM 10UF 20% 160V RADIAL; Part Number: ECA-2CHG100; Manufacturer: Panasonic Electronic Components; TemperatureRange: -25C ~ 105C; Type: Polar; Ripple Current: 70mA @ 120Hz; Value: 10uF; PartId: 24869; Supplier 1: Digi-Key; Supplier Part Number 1: P5856-ND; ComponentLink1Description: Datasheet; ComponentLink1URL: http://industrial.panasonic.com/www-cgi/jvcr13pz.cgi?E+PZ+3+ABA0026+ECA2CHG100+7+WW; ComponentLink2Description: Digi-Key Listing; ComponentLink2URL: https://www.digikey.com/product-detail/en/panasonic-electronic-components/ECA-2CHG100/P5856-ND/245205; Tolerance: 20%; Voltage: 160V; Price: 0.48; Device Package: Radial, Can, 10mm
footprint CAP AL TH D10 L5 H14.5
pins: 1, 2

## ECA-2CHG101
designator C?, comment 100uF  (value not drawn)
CAP ALUM 100UF 20% 160V RADIAL; Part Number: ECA-2CHG101; Manufacturer: Panasonic Electronic Components; TemperatureRange: -25C ~ 105C; Type: Polar; Ripple Current: 70mA @ 120Hz; Value: 100uF; PartId: 26828; Supplier 1: Digi-Key; Supplier Part Number 1: P5860-ND; ComponentLink1Description: Datasheet; ComponentLink1URL: http://industrial.panasonic.com/www-cgi/jvcr13pz.cgi?E+PZ+3+ABA0026+ECA2CHG101+7+WW; ComponentLink2Description: Digi-Key Listing; ComponentLink2URL: https://www.digikey.com/product-detail/en/panasonic-electronic-components/ECA-2CHG101/P5860-ND/245209; Tolerance: 20%; Voltage: 160V; Price: 0.98; Device Package: Radial, Can, 16mm
footprint CAP AL TH D16 L7.5 H27
pins: 1, 2

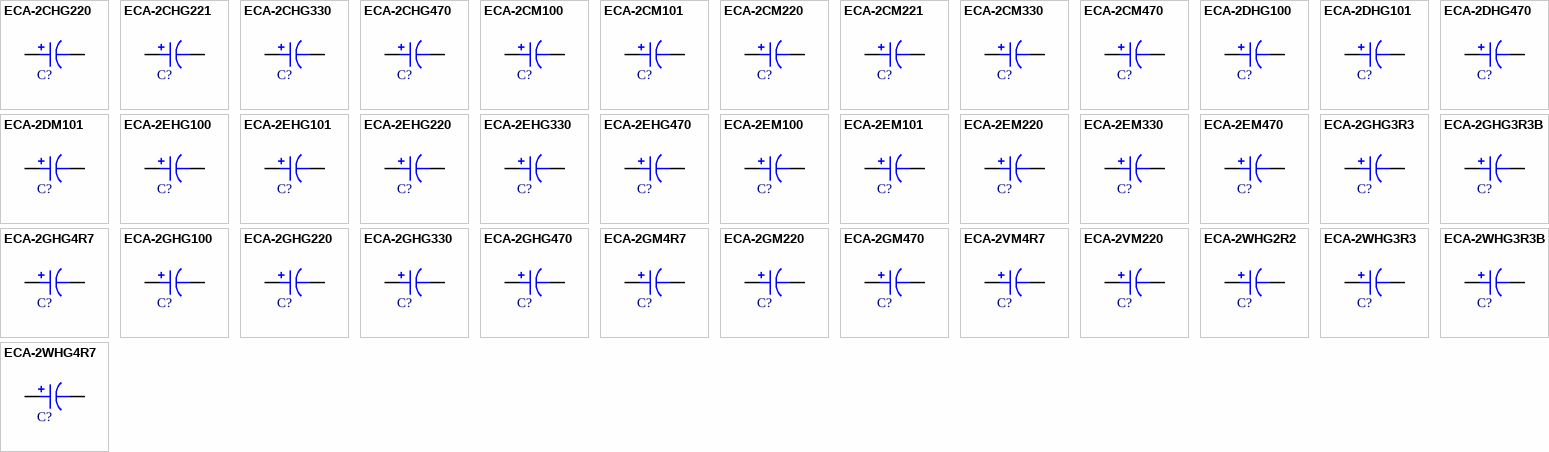
[diagram p22: symbols ECA-2CHG220 to ECA-2WHG4R7]

## ECA-2CHG220
designator C?, comment 22uF  (value not drawn)
CAP ALUM 22UF 20% 160V RADIAL; Part Number: ECA-2CHG220; Manufacturer: Panasonic Electronic Components; TemperatureRange: -25C ~ 105C; Type: Polar; Ripple Current: 130mA @ 120Hz; Value: 22uF; PartId: 25888; Supplier 1: Digi-Key; Supplier Part Number 1: P5857-ND; ComponentLink1Description: Datasheet; ComponentLink1URL: http://industrial.panasonic.com/www-cgi/jvcr13pz.cgi?E+PZ+3+ABA0026+ECA2CHG220+7+WW; ComponentLink2Description: Digi-Key Listing; ComponentLink2URL: https://www.digikey.com/product-detail/en/panasonic-electronic-components/ECA-2CHG220/P5857-ND/245206; Tolerance: 20%; Voltage: 160V; Price: 0.65; Device Package: Radial, Can, 10mm
footprint CAP AL TH D10 L5 H22
pins: 1, 2

## ECA-2CHG221
designator C?, comment 220uF  (value not drawn)
CAP ALUM 220UF 20% 160V RADIAL; Part Number: ECA-2CHG221; Manufacturer: Panasonic Electronic Components; TemperatureRange: -25C ~ 105C; Type: Polar; Ripple Current: 540mA @ 120Hz; Value: 220uF; PartId: 27038; Supplier 1: Digi-Key; Supplier Part Number 1: P5861-ND; ComponentLink1Description: Datasheet; ComponentLink1URL: http://industrial.panasonic.com/www-cgi/jvcr13pz.cgi?E+PZ+3+ABA0026+ECA2CHG221+7+WW; ComponentLink2Description: Digi-Key Listing; ComponentLink2URL: https://www.digikey.com/product-detail/en/panasonic-electronic-components/ECA-2CHG221/P5861-ND/245210; Tolerance: 20%; Voltage: 160V; Price: 1.53; Device Package: Radial, Can, 16mm
footprint CAP AL TH D16 L7.5 H33.5
pins: 1, 2

## ECA-2CHG330
designator C?, comment 33uF  (value not drawn)
CAP ALUM 33UF 20% 160V RADIAL; Part Number: ECA-2CHG330; Manufacturer: Panasonic Electronic Components; TemperatureRange: -25C ~ 105C; Type: Polar; Ripple Current: 180mA @ 120Hz; Value: 33uF; PartId: 25887; Supplier 1: Digi-Key; Supplier Part Number 1: P5858-ND; ComponentLink1Description: Datasheet; ComponentLink1URL: http://industrial.panasonic.com/www-cgi/jvcr13pz.cgi?E+PZ+3+ABA0026+ECA2CHG330+7+WW; ComponentLink2Description: Digi-Key Listing; ComponentLink2URL: https://www.digikey.com/product-detail/en/panasonic-electronic-components/ECA-2CHG330/P5858-ND/245207; Tolerance: 20%; Voltage: 160V; Price: 0.65; Device Package: Radial, Can, 10mm
footprint CAP AL TH D10 L5 H22
pins: 1, 2

## ECA-2CHG470
designator C?, comment 47uF  (value not drawn)
CAP ALUM 47UF 20% 160V RADIAL; Part Number: ECA-2CHG470; Manufacturer: Panasonic Electronic Components; TemperatureRange: -25C ~ 105C; Type: Polar; Ripple Current: 220mA @ 120Hz; Value: 47uF; PartId: 23267; Supplier 1: Digi-Key; Supplier Part Number 1: P5859-ND; ComponentLink1Description: Datasheet; ComponentLink1URL: http://industrial.panasonic.com/www-cgi/jvcr13pz.cgi?E+PZ+3+ABA0026+ECA2CHG470+7+WW; ComponentLink2Description: Digi-Key Listing; ComponentLink2URL: https://www.digikey.com/product-detail/en/panasonic-electronic-components/ECA-2CHG470/P5859-ND/245208; Tolerance: 20%; Voltage: 160V; Price: 0.75; Device Package: Radial, Can, 12.5mm
footprint CAP AL TH D12.5 L5 H22
pins: 1, 2

## ECA-2CM100
designator C?, comment 10uF  (value not drawn)
CAP ALUM 10UF 20% 160V RADIAL; Part Number: ECA-2CM100; Manufacturer: Panasonic Electronic Components; TemperatureRange: -25C ~ 85C; Type: Polar; Ripple Current: 105mA @ 120Hz; Value: 10uF; PartId: 24851; Supplier 1: Digi-Key; Supplier Part Number 1: P5322-ND; ComponentLink1Description: Datasheet; ComponentLink1URL: http://industrial.panasonic.com/www-cgi/jvcr13pz.cgi?E+PZ+3+ABA0012+ECA2CM100+7+WW; ComponentLink2Description: Digi-Key Listing; ComponentLink2URL: https://www.digikey.com/product-detail/en/panasonic-electronic-components/ECA-2CM100/P5322-ND/245076; Tolerance: 20%; Voltage: 160V; Price: 0.47; Device Package: Radial, Can, 10mm
footprint CAP AL TH D10 L5 H14.5
pins: 1, 2